# Altium footprint library 拨码开关.PcbLib: 11 footprints
Each footprint in its own frame and in the unit in brackets; x right, y up, seen from the top. Pads: shape width x height; smd on the part's side, far side on the other; paste and mask are expansions set on the pad; w line width, h text height; cw(c..) or ccw(c..) is an arc to the next point about the centre after c.
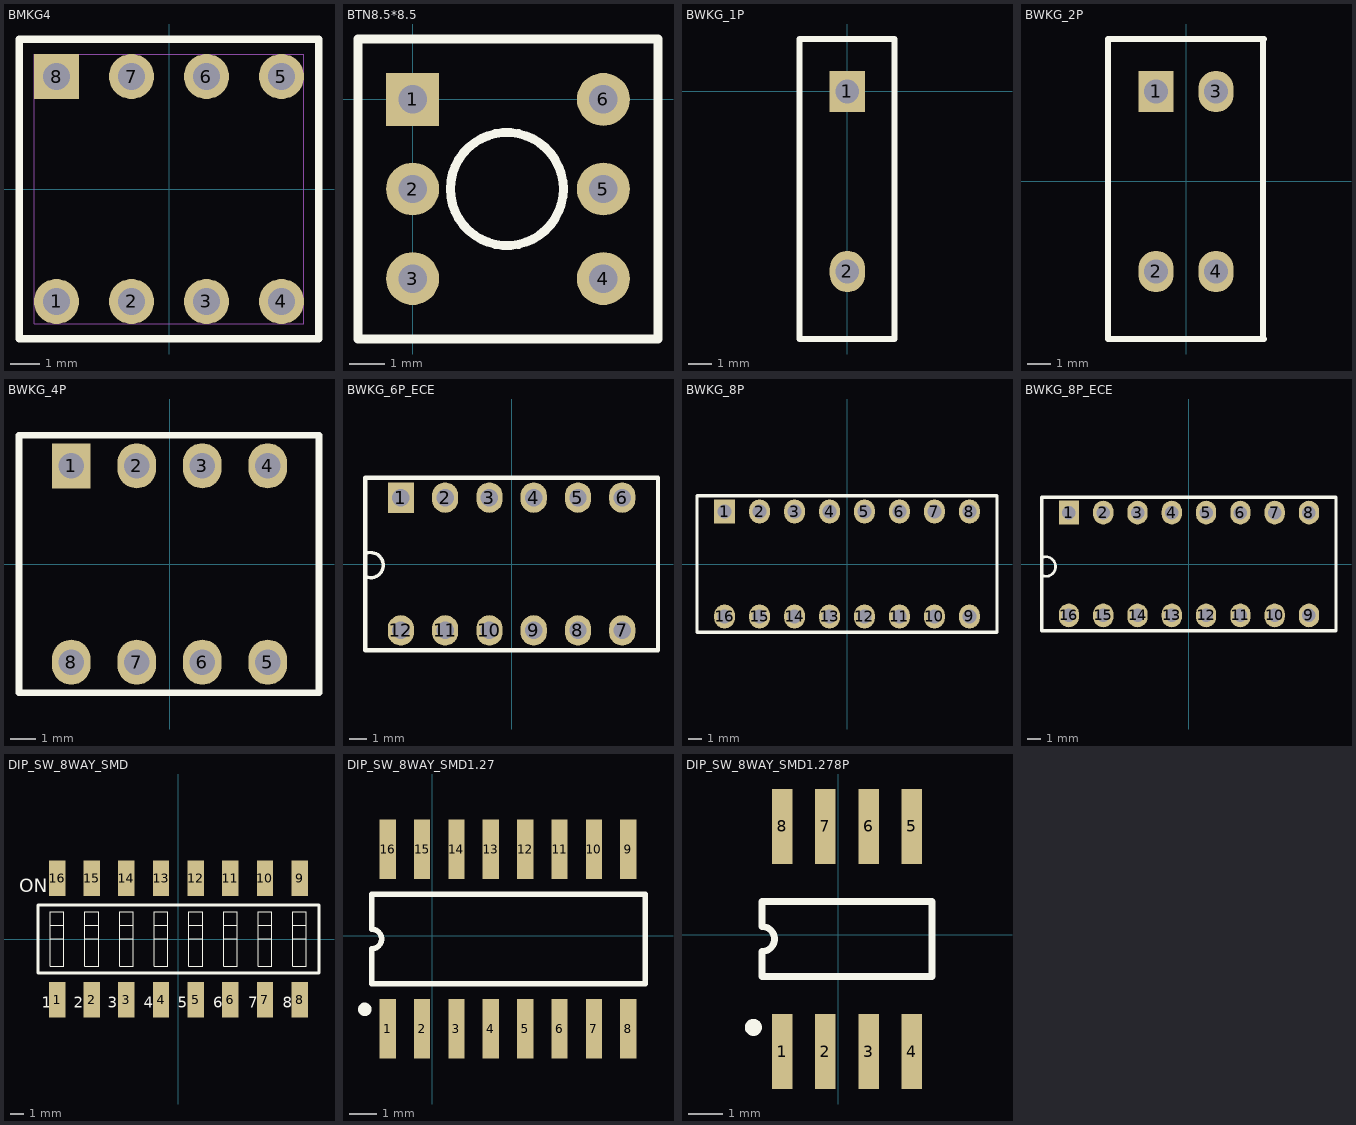
[diagram p0: the footprints below, top view; thin cyan lines are the x and y axes]

## BMKG4 [mil] "BMKG4"
pads (8):
  round 60 hole 36: 1(-150,-150) 2(-50,-150) 3(50,-150) 4(150,-150) 5(150,150) 6(50,150) 7(-50,150)
  rect 60x60 hole 36: 8(-150,150)
Top Overlay:
  lines w10: -200,-200 200,-200 200,200 -200,200 -200,-200
Mechanical 11:
  text "8" at -160,150 h25
  text "7" at -60,150 h25
  text "6" at 40,150 h25
  text "5" at 140,150 h25
  text "2" at -60,-150 h25
  text "1" at -160,-150 h25
  text "4" at 140,-150 h25
  text "3" at 40,-150 h25
Mechanical 12:
  lines w1: -180,-180 180,-180 180,180 -180,180 -180,-180
Mechanical 13:
  lines w1: -180,-180 180,-180 180,180 -180,180 -180,-180

## BTN8.5*8.5 [mm]
pads (6):
  rect 1.5x1.5 hole 0.8: 1(0,0)
  round 1.5 hole 0.8: 2(0,-2.54) 3(0,-5.08) 4(5.4,-5.08) 5(5.4,-2.54) 6(5.4,0)
Top Overlay:
  circle w0.254: c2.667,-2.54 r1.6
  lines w0.254: -1.55,-6.79 -1.55,1.71 6.95,1.71 6.95,-6.79 -1.55,-6.79

## BWKG_1P [mm]
pads (2):
  rect 1.5x1.75 hole 1: 1(0,0)
  oval 1.5x1.75 hole 1: 2(0,-7.62)
Top Overlay:
  lines w0.254: -2.032,-10.478 -2.032,1.714 -2.032,2.222 2,2.222 2,-10.478 -2.032,-10.478

## BWKG_2P [mm]
pads (4):
  rect 1.5x1.75 hole 1: 1(-1.27,3.81)
  oval 1.5x1.75 hole 1: 2(-1.27,-3.81) 3(1.27,3.81) 4(1.27,-3.81)
Top Overlay:
  lines w0.254: 3.27,-6.668 3.27,6.032 ; 3.302,-6.668 -3.302,-6.668 -3.302,5.524 -3.302,6.032 3.302,6.032

## BWKG_4P [mm]
height 8
pads (8):
  rect 1.5x1.75 hole 1: 1(-3.81,3.81)
  oval 1.5x1.75 hole 1: 2(-1.27,3.81) 3(1.27,3.81) 4(3.81,3.81) 5(3.81,-3.81) 6(1.27,-3.81) 7(-1.27,-3.81) 8(-3.81,-3.81)
Top Overlay:
  lines w0.254: -5.842,-5 -5.842,5 ; -5.8,-5 5.8,-5 5.8,4.975 ; -5.8,5 5.8,5

## BWKG_6P_ECE [mm] "台湾ECE拨码开关 侧拨"
height 9.7
pads (12):
  rect 1.5x1.75 hole 1: 1(-6.35,3.81)
  oval 1.5x1.75 hole 1: 2(-3.81,3.81) 3(-1.27,3.81) 4(1.27,3.81) 5(3.81,3.81) 6(6.35,3.81) 7(6.35,-3.81) 8(3.81,-3.81) 9(1.27,-3.81) 10(-1.27,-3.81) 11(-3.81,-3.81) 12(-6.35,-3.81)
Top Overlay:
  lines w0.2: -8.356,0.607 cw(c-8.082,-0.064) -7.384,-0.254 cw(c-8.067,-0.079) -8.351,-0.724
  lines w0.254: -8.4,-4.95 8.4,-4.95 8.4,4.95 -8.4,4.95 -8.4,-4.95

## BWKG_8P [mm]
height 8
pads (16):
  rect 1.5x1.75 hole 1: 1(-8.89,3.81)
  oval 1.5x1.75 hole 1: 2(-6.35,3.81) 3(-3.81,3.81) 4(-1.27,3.81) 5(1.27,3.81) 6(3.81,3.81) 7(6.35,3.81) 8(8.89,3.81) 9(8.89,-3.81) 10(6.35,-3.81) 11(3.81,-3.81) 12(1.27,-3.81) 13(-1.27,-3.81) 14(-3.81,-3.81) 15(-6.35,-3.81) 16(-8.89,-3.81)
Top Overlay:
  lines w0.254: -10.89,-4.95 -10.89,4.95 10.89,4.95 10.89,-4.95 -10.89,-4.95

## BWKG_8P_ECE [mm] "台湾ECE拨码开关 侧拨"
height 9.7
pads (16):
  rect 1.5x1.75 hole 1: 1(-8.89,3.81)
  oval 1.5x1.75 hole 1: 2(-6.35,3.81) 3(-3.81,3.81) 4(-1.27,3.81) 5(1.27,3.81) 6(3.81,3.81) 7(6.35,3.81) 8(8.89,3.81) 9(8.89,-3.81) 10(6.35,-3.81) 11(3.81,-3.81) 12(1.27,-3.81) 13(-1.27,-3.81) 14(-3.81,-3.81) 15(-6.35,-3.81) 16(-8.89,-3.81)
Top Overlay:
  lines w0.2: -10.878,0.48 cw(c-10.604,-0.191) -9.906,-0.381 cw(c-10.589,-0.206) -10.873,-0.851
  lines w0.254: -10.89,-4.95 10.89,-4.95 10.89,4.95 -10.89,4.95 -10.89,-4.95

## DIP_SW_8WAY_SMD [mm] "DIP Switch; 16 Leads"
height 5.06
pads (16):
  rect 1.2x2.6 smd: 1(-8.89,-4.45) 2(-6.35,-4.45) 3(-3.81,-4.45) 4(-1.27,-4.45) 5(1.27,-4.45) 6(3.81,-4.45) 7(6.35,-4.45) 8(8.89,-4.45) 9(8.89,4.45) 10(6.35,4.45) 11(3.81,4.45) 12(1.27,4.45) 13(-1.27,4.45) 14(-3.81,4.45) 15(-6.35,4.45) 16(-8.89,4.45)
Top Overlay:
  lines w0.025: -9.39,0 -8.39,0 ; -9.39,1 -8.39,1 ; -6.85,0 -5.85,0 ; -6.85,1 -5.85,1 ; -4.31,0 -3.31,0 ; -4.31,1 -3.31,1 ; -1.77,0 -0.77,0 ; -1.77,1 -0.77,1 ; 0.77,0 1.77,0 ; 0.77,1 1.77,1 ; 3.31,0 4.31,0 ; 3.31,1 4.31,1 ; 5.85,0 6.85,0 ; 5.85,1 6.85,1 ; 8.39,0 9.39,0 ; 8.39,1 9.39,1 ; -9.39,-2 -9.39,2 -8.39,2 -8.39,-2 -9.39,-2 ; -6.85,-2 -6.85,2 -5.85,2 -5.85,-2 -6.85,-2 ; -4.31,-2 -4.31,2 -3.31,2 -3.31,-2 -4.31,-2 ; -1.77,-2 -1.77,2 -0.77,2 -0.77,-2 -1.77,-2 ; 0.77,-2 0.77,2 1.77,2 1.77,-2 0.77,-2 ; 3.31,-2 3.31,2 4.31,2 4.31,-2 3.31,-2 ; 5.85,-2 5.85,2 6.85,2 6.85,-2 5.85,-2 ; 8.39,-2 8.39,2 9.39,2 9.39,-2 8.39,-2
  lines w0.2: -10.29,-2.5 -10.29,2.5 10.31,2.5 10.31,-2.5 -10.29,-2.5
  text "6" at 2.569,-5.032 h0.8
  text "5" at -0.031,-5.032 h0.8
  text "4" at -2.556,-5.032 h0.8
  text "3" at -5.181,-5.032 h0.8
  text "2" at -7.681,-5.032 h0.8
  text "1" at -10.006,-5.032 h0.8
  text "ON" at -11.684,3.429 h1
  text "7" at 5.119,-5.032 h0.8
  text "8" at 7.659,-5.032 h0.8

## DIP_SW_8WAY_SMD1.27 [mm]
pads (16):
  rect 0.6x2.2 smd: 1(-1.651,-3.438) 2(-0.381,-3.438) 3(0.889,-3.438) 4(2.159,-3.438) 5(3.429,-3.438) 6(4.699,-3.438) 7(5.969,-3.438) 8(7.239,-3.438) 9(7.239,3.184) 10(5.969,3.184) 11(4.699,3.184) 12(3.429,3.184) 13(2.159,3.184) 14(0.889,3.184) 15(-0.381,3.184) 16(-1.651,3.184)
Top Overlay:
  circle w0.25: c-2.501,-2.727 r0.125
  lines w0.2: -2.246,-1.778 -2.246,-0.494 ccw(c-2.246,-0.127) -2.246,0.24 -2.246,1.524 7.874,1.524 7.874,-1.778 -2.246,-1.778

## DIP_SW_8WAY_SMD1.278P [mm]
pads (8):
  rect 0.6x2.2 smd: 1(-1.651,-3.438) 2(-0.381,-3.438) 3(0.889,-3.438) 4(2.159,-3.438) 5(2.159,3.184) 6(0.889,3.184) 7(-0.381,3.184) 8(-1.651,3.184)
Top Overlay:
  circle w0.25: c-2.501,-2.727 r0.125
  lines w0.2: -2.246,-1.227 -2.246,-0.494 ccw(c-2.246,-0.127) -2.246,0.24 -2.246,0.973 2.754,0.973 2.754,-1.227 -2.246,-1.227